# EAGLE library part CONNECTOR3X3_20DEG (library harrison)
3x3 connector, 20 degrees
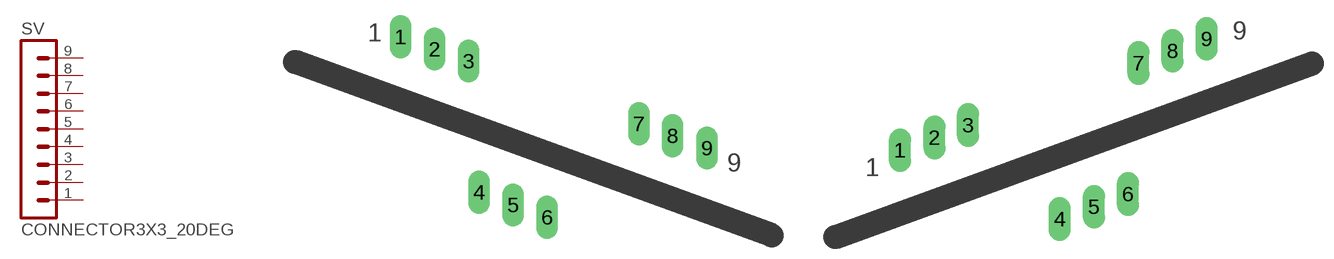
[diagram p10: symbol with the pads of CONNECTOR3X3_20LEFT; footprints CONNECTOR3X3_20LEFT, CONNECTOR3X3_20RIGHT]

Designator prefix SV

## CONNECTOR3X3_20DEG  [CONNECTOR3X3_20LEFT]
1  1  pas
2  2  pas
3  3  pas
4  4  pas
5  5  pas
6  6  pas
7  7  pas
8  8  pas
9  9  pas

## CONNECTOR3X3_20DEGRIGHT  [CONNECTOR3X3_20RIGHT]
Pads as for CONNECTOR3X3_20LEFT

## CONNECTOR3X3_20DEGLEFT  [CONNECTOR3X3_20LEFT]
Pads as for CONNECTOR3X3_20LEFT

## Footprint CONNECTOR3X3_20LEFT (pad centres in mm)
drill 1.016 long: 1 -26.035,13.919; 2 -23.647,13.056; 3 -21.26,12.217; 4 -20.523,3.023; 5 -18.136,2.134; 6 -15.748,1.27; 7 -9.322,7.823; 8 -6.96,6.985; 9 -4.547,6.121

## Footprint CONNECTOR3X3_20RIGHT (pad centres in mm)
drill 1.016 long: 1 4.547,6.096; 2 6.96,6.985; 3 9.322,7.849; 4 15.748,1.27; 5 18.136,2.134; 6 20.523,3.023; 7 21.26,12.192; 8 23.647,13.056; 9 26.035,13.894